# Altium schematic symbol library Fake_PGA.SchLib: 1 symbol
Pins are listed as number, name and electrical type; pins without a type are passive.

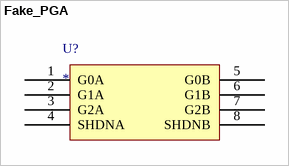
[diagram p0: symbol Fake_PGA]

## Fake_PGA
designator U?
pins: 1 G0A, 2 G1A, 3 G2A, 4 SHDNA, 5 G0B, 6 G1B, 7 G2B, 8 SHDNB